# Altium footprint library AFE.PcbLib: 6 footprints
Each footprint in its own frame and in the unit in brackets; x right, y up, seen from the top. Pads: shape width x height; smd on the part's side, far side on the other; paste and mask are expansions set on the pad; w line width, h text height; cw(c..) or ccw(c..) is an arc to the next point about the centre after c.
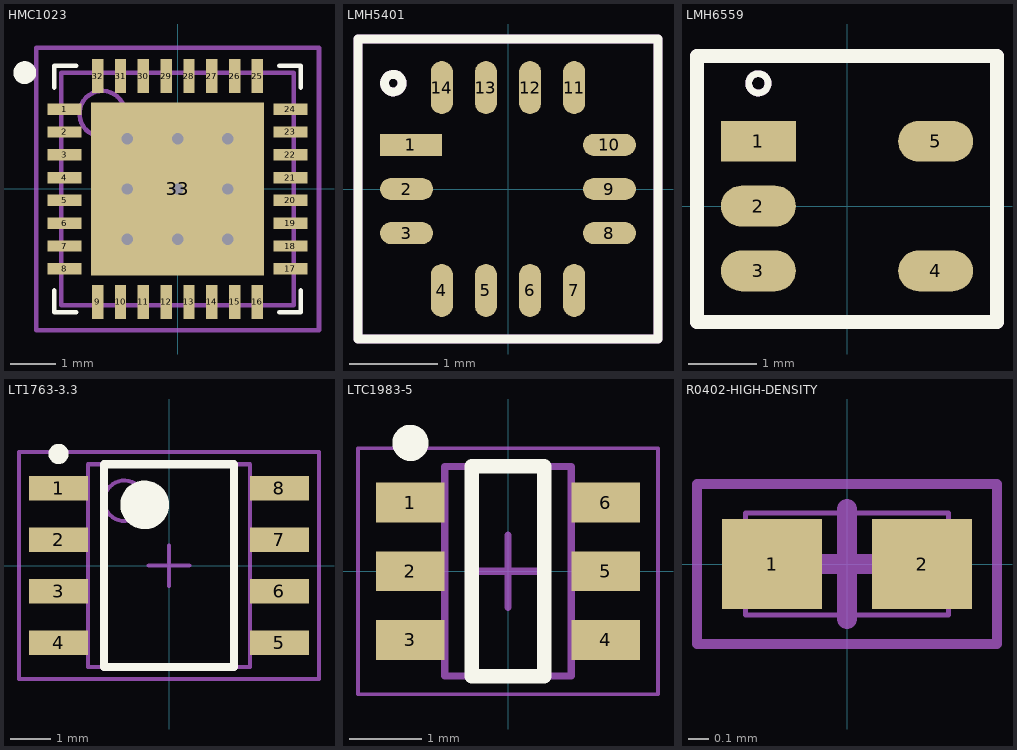
[diagram p0: the footprints below, top view; thin cyan lines are the x and y axes]

## HMC1023 [mm] "QFN, 32-Leads, Body 5.00x5.00mm, Pitch 0.50mm, Thermal Pad 3.80x3.80mm, IPC Medium Density"
height 1
pads (33):
  rect 0.75x0.25 smd: 1(-2.475,1.75) 2(-2.475,1.25) 3(-2.475,0.75) 4(-2.475,0.25) 5(-2.475,-0.25) 6(-2.475,-0.75) 7(-2.475,-1.25) 8(-2.475,-1.75) 17(2.475,-1.75) 18(2.475,-1.25) 19(2.475,-0.75) 20(2.475,-0.25) 21(2.475,0.25) 22(2.475,0.75) 23(2.475,1.25) 24(2.475,1.75)
  rect 0.25x0.75 smd: 9(-1.75,-2.475) 10(-1.25,-2.475) 11(-0.75,-2.475) 12(-0.25,-2.475) 13(0.25,-2.475) 14(0.75,-2.475) 15(1.25,-2.475) 16(1.75,-2.475) 25(1.75,2.475) 26(1.25,2.475) 27(0.75,2.475) 28(0.25,2.475) 29(-0.25,2.475) 30(-0.75,2.475) 31(-1.25,2.475) 32(-1.75,2.475)
  rect 3.8x3.8 smd: 33(0,0)
via 1.1,-1.1 diameter 0.5 hole 0.25
via 0,-1.1 diameter 0.5 hole 0.25
via -1.1,-1.1 diameter 0.5 hole 0.25
via 1.1,0 diameter 0.5 hole 0.25
via 0,0 diameter 0.5 hole 0.25
via -1.1,0 diameter 0.5 hole 0.25
via 1.1,1.1 diameter 0.5 hole 0.25
via 0,1.1 diameter 0.5 hole 0.25
via -1.1,1.1 diameter 0.5 hole 0.25
Top Overlay:
  circle w0.25: c-3.35,2.55 r0.125
  lines w0.1: -2.7,-2.225 -2.7,-2.7 -2.225,-2.7 ; -2.7,2.225 -2.7,2.7 -2.225,2.7 ; 2.225,-2.7 2.7,-2.7 2.7,-2.225 ; 2.225,2.7 2.7,2.7 2.7,2.225
Top Courtyard:
  lines w0.1: -0.5,0 0.5,0 ; 0,-0.5 0,0.5 ; -3.1,-3.1 3.1,-3.1 3.1,3.1 -3.1,3.1 -3.1,-3.1
Top Assembly:
  circle w0.1: c-1.65,1.65 r0.5
  lines w0.1: -2.55,-2.55 2.55,-2.55 2.55,2.55 -2.55,2.55 -2.55,-2.55
3D body: height 1, standoff 0.01, extent -2.55,-2.55 2.55,2.55

## LMH5401 [mm]
pads (14):
  rect 0.7x0.25 smd mask+0.07: 1(-1.1,0.5)
  oval 0.6x0.25 smd mask+0.07: 2(-1.15,0) 3(-1.15,-0.5) 8(1.15,-0.5) 9(1.15,0) 10(1.15,0.5)
  oval 0.25x0.6 smd mask+0.07: 4(-0.75,-1.15) 5(-0.25,-1.15) 6(0.25,-1.15) 7(0.75,-1.15) 11(0.75,1.15) 12(0.25,1.15) 13(-0.25,1.15) 14(-0.75,1.15)
Top Overlay:
  circle w0.1: c-1.3,1.2 r0.1
  lines w0.1: -1.7,-1.7 1.7,-1.7 1.7,1.7 -1.7,1.7 -1.7,-1.7
Top Assembly:
  circle w0.1: c-1.3,1.2 r0.1
  lines w0.1: -1.7,-1.7 -1.7,1.7 1.7,1.7 1.7,-1.7 -1.7,-1.7
  text ".Designator" at -1.1,-0.233 h0.5

## LMH6559 [mm]
pads (5):
  rect 1.1x0.6 smd mask+0.07: 1(-1.3,0.95)
  oval 1.1x0.6 smd mask+0.07: 2(-1.3,0) 3(-1.3,-0.95) 4(1.3,-0.95) 5(1.3,0.95)
Top Overlay:
  circle w0.1: c-1.3,1.8 r0.141
  lines w0.2: -2.2,-1.7 2.2,-1.7 2.2,2.2 -2.2,2.2 -2.2,-1.7
Top Assembly:
  circle w0.1: c-1.3,1.8 r0.141
  lines w0.2: -2.2,-1.7 2.2,-1.7 2.2,2.2 -2.2,2.2 -2.2,-1.7
  text ".Designator" at -1.1,-0.233 h0.5

## LT1763-3.3 [mm] "SOIC, 8-Leads, Body 4.90x3.90mm, Pitch 1.27mm, IPC Medium Density"
height 1.76
pads (8):
  rect 1.45x0.6 smd: 1(-2.725,1.905) 2(-2.725,0.635) 3(-2.725,-0.635) 4(-2.725,-1.905) 5(2.725,-1.905) 6(2.725,-0.635) 7(2.725,0.635) 8(2.725,1.905)
Top Overlay:
  circle w0.25: c-2.725,2.755 r0.125
  circle w0.6: c-0.6,1.5 r0.3
  lines w0.2: -1.6,-2.5 -1.6,2.5 1.6,2.5 1.6,-2.5 -1.6,-2.5
Top Courtyard:
  lines w0.1: -0.5,0 0.5,0 ; 0,-0.5 0,0.5 ; -3.7,-2.8 -3.7,2.8 3.7,2.8 3.7,-2.8 -3.7,-2.8
Top Assembly:
  circle w0.1: c-1.1,1.6 r0.5
  lines w0.1: -2,-2.5 -2,2.5 2,2.5 2,-2.5 -2,-2.5
3D body: height 1.76, standoff 0.1, extent -2,-2.5 2,2.5

## LTC1983-5 [mm] "SOT23, 6-Leads, Body 2.90x2.80mm, Pitch 0.95mm, IPC Medium Density"
height 1
pads (6):
  rect 0.95x0.55 smd: 1(-1.35,0.95) 2(-1.35,0) 3(-1.35,-0.95) 4(1.35,-0.95) 5(1.35,0) 6(1.35,0.95)
Top Overlay:
  circle w0.25: c-1.35,1.775 r0.125
  lines w0.2: -0.5,-1.45 -0.5,1.45 0.5,1.45 0.5,-1.45 -0.5,-1.45
Top Courtyard:
  lines w0.05: -2.075,-1.7 2.075,-1.7 2.075,1.7 -2.075,1.7 -2.075,-1.7
  lines w0.1: -0.5,0 0.5,0 ; 0,-0.5 0,0.5
Top Assembly:
  lines w0.1: -0.875,-1.45 0.875,-1.45 0.875,1.45 -0.875,1.45 -0.875,-1.45
3D body: height 1, standoff 0.01, extent -0.875,-1.45 0.875,1.45

## R0402-HIGH-DENSITY [mm] "Chip Resistor, 2-Leads, Body 1.00x0.50mm, IPC High Density"
height 0.4
pads (2):
  rect 0.5x0.45 smd: 1(-0.375,0) 2(0.375,0)
Bottom Courtyard:
  lines w0.025: -0.508,-0.254 0.508,-0.254 0.508,0.254 -0.508,0.254 -0.508,-0.254
  text ".Designator" at -1.321,-0.254 h0.25
Top Assembly:
  lines w0.05: -0.75,-0.4 -0.75,0.4 0.75,0.4 0.75,-0.4 -0.75,-0.4
  lines w0.1: -0.275,0 0.275,0 ; 0,-0.275 0,0.275
3D body "RES0402.STEP": height 0.34, standoff -0.02, extent -0.5,-0.255 0.5,0.255